# Altium schematic symbol library SPACER(M2, 8MM, 14MM).SchLib: 1 symbol
Pins are listed as number, name and electrical type; pins without a type are passive.

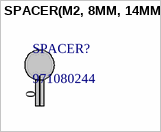
[diagram p0: symbol SPACER(M2, 8MM, 14MM)]

## SPACER(M2, 8MM, 14MM)
designator SPACER?, comment 971080244
SPACER(M2, 8MM, 14MM); Manufacturer: Würth Elektronik; Manufacturer_PN: 971080244; Package: TH; Datasheet: https://www.we-online.com/components/products/datasheet/971080244.pdf; Digikey_Link: https://www.digikey.it/en/products/detail/w%C3%BCrth-elektronik/971080244/9488615?s=N4IgTCBcDaIJwHYCMAGAHCsAWLIC6AvkA
footprint SPACER(M2, 8MM, 14MM)
pins: 0